# Altium schematic symbol library USB_SER.SCHLIB: 17 symbols
Pins are listed as number, name and electrical type; pins without a type are passive.

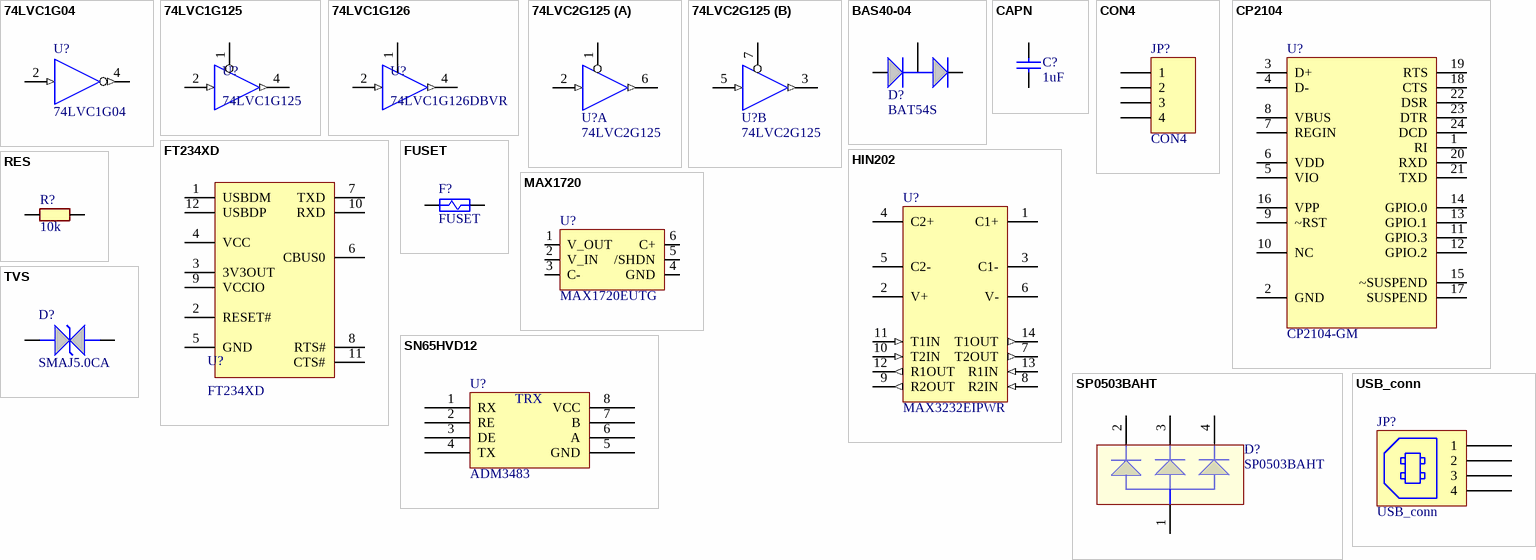
[diagram p0: symbols 74LVC1G04 to USB_conn]

## 74LVC1G04
designator U?
footprint SOT-23-5
pins: 1 NC hidden, 2 A (in), 3 GND (power) hidden to GND, 4 Y (out), 5 VCC (power) hidden to VDD

## 74LVC1G125
designator U?
footprint SOT-23-5
pins: 1 OE, 2 A (in), 3 GND hidden to GND, 4 Y (out), 5 VCC hidden to VCC

## 74LVC1G126
designator U?, comment 74LVC1G126DBVR
footprint SOT-23-5
pins: 1 OE, 2 A (in), 3 GND hidden to GND, 4 Y (out), 5 VCC hidden to VCC

## 74LVC2G125
designator U?
footprint MSOP-8
part A pins: 1 1OE, 2 1A (in), 6 1Y (out)
part B pins: 3 2Y (out), 4 GND (power) hidden to GND, 5 2A (in), 7 2OE, 8 VCC (power) hidden to VDD

## BAS40-04
designator D?, comment BAT54S
SHOTKI Cd<5pF; Производитель: *
footprint SOT-23
footprint SOT-323
pins: 1 A1, 2 C2A1, 3 C2

## CAPN
designator C?, comment 1uF
Part Field 1: Hitano; Part Field 7: 10%; Part Field 8: 50V; Part Field 9: X7R
footprint C-0603
footprint C-0805
footprint C-1206
pins: 1, 2

## CON4
designator JP?
Connector; Производитель: *; Допустимая замена: *; Цена: *; PDF файл: *; Температурный диапазон: *; Описание пользователя: *; Конфигурация контактов RxNN: *; *: *
footprint IDC1-4P
footprint IDC2-2P
footprint ZAK2-2R
pins: 1, 2, 3, 4

## CP2104
designator U?, comment CP2104-GM
footprint QFN24 (Silabs CP2105)
pins: 1 RI, 2 GND, 3 D+, 4 D-, 5 VIO, 6 VDD, 7 REGIN, 8 VBUS, 9 ~RST, 10 NC, 11 GPIO.3, 12 GPIO.2, 13 GPIO.1, 14 GPIO.0, 15 ~SUSPEND, 16 VPP, 17 SUSPEND, 18 CTS, 19 RTS, 20 RXD, 21 TXD, 22 DSR, 23 DTR, 24 DCD

## FT234XD
designator U?
footprint DFN-12_FTDI
pins: 0 EP hidden to GND, 1 USBDM, 2 RESET#, 3 3V3OUT, 4 VCC, 5 GND, 6 CBUS0, 7 TXD, 8 RTS#, 9 VCCIO, 10 RXD, 11 CTS#, 12 USBDP

## FUSET
designator F?
footprint R-1206
pins: 1, 2

## HIN202
designator U?, comment MAX3232EIPWR
RS232 driver; Производитель: *; Допустимая замена: *; Цена: *; PDF файл: *; Температурный диапазон: *
footprint SO16-(SOT-109-1)
footprint SO16-(SOT-162-1)
footprint SSOP16-(SOT-338-1)
footprint SSOP16
pins: 1 C1+, 2 V+, 3 C1-, 4 C2+, 5 C2-, 6 V-, 7 T2OUT (out), 8 R2IN (in), 9 R2OUT (out), 10 T2IN (in), 11 T1IN (in), 12 R1OUT (out), 13 R1IN (in), 14 T1OUT (out), 15 GND-D (power) hidden to GND, 16 VCC (power) hidden to VDD

## MAX1720
designator U?, comment MAX1720EUTG
footprint SOT-6-(SOT-26)
pins: 1 V_OUT, 2 V_IN, 3 C-, 4 GND, 5 /SHDN, 6 C+

## RES
designator R?, comment 10k
Part Field 1: UniOhm; Part Field 7: 5%
footprint R-0603
footprint R-0805
footprint R-1206
pins: 1, 2

## SN65HVD12
designator U?, comment ADM3483
footprint SO8-(SOT-96-1)
pins: 1 RX, 2 RE, 3 DE, 4 TX, 5 GND, 6 A, 7 B, 8 VCC
text: TRX

## SP0503BAHT
designator D?
footprint SOT-143B
pins: 1, 2, 3, 4

## TVS
designator D?, comment SMAJ5.0CA
Transient   Voltage  Suppressor; Part Field 1: Taiwan Semiconductor; Part Field 6: 7V, Bidirectional
footprint SMA
footprint SMB
footprint SMC
footprint SMA - NP
footprint SOD-106A; pin to pad 1>A 2>K
pins: 1, 2

## USB_conn
designator JP?
USB_connector
footprint CU02SAH0000 (USB_connector)
footprint USB(BR)
footprint USB_A_M (thru-hole mounted USB-A jack)
pins: 1, 2, 3, 4